# EAGLE library part M27C4001 (library st-microelectronics)
4 Mbit (512Kb x 8) UV EPROM and OTP EPROM Source: www.st.com .. M27C4001 EPROM 4 MBIT.pdf
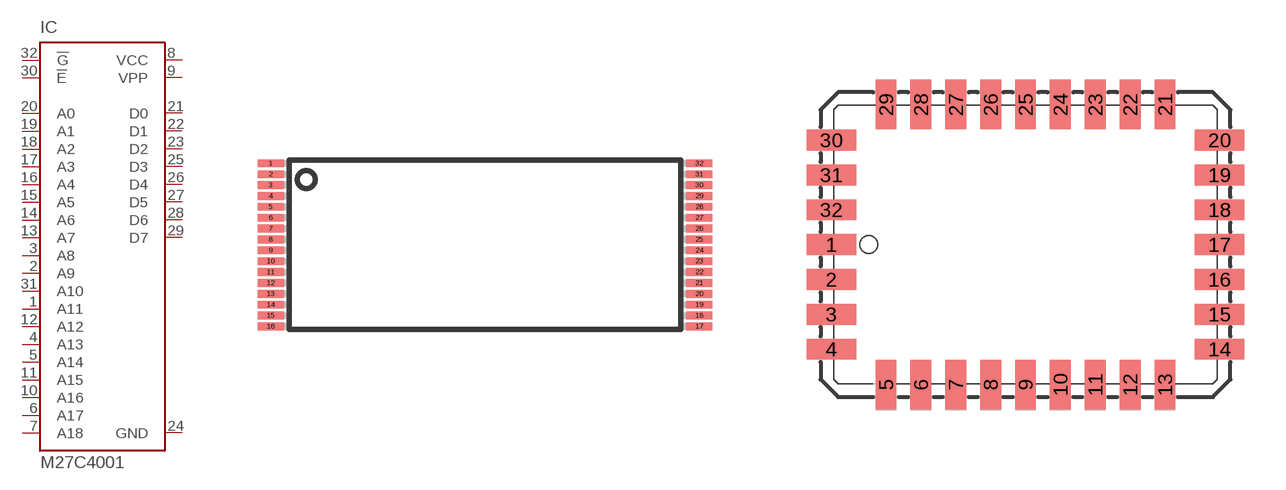
[diagram p29: symbol with the pads of TSOP32; footprints TSOP32, LCC32]

Designator prefix IC

## M27C4001N (OC_FARNELL: unknown; OC_NEWARK: unknown)  [TSOP32]
1  A11  in
2  A9  in
3  A8  in
4  A13  in
5  A14  in
6  A17  in
7  A18  in
8  VCC  pwr
9  VPP  pwr
10  A16  in
11  A15  in
12  A12  in
13  A7  in
14  A6  in
15  A5  in
16  A4  in
17  A3  in
18  A2  in
19  A1  in
20  A0  in
21  D0  hiz
22  D1  hiz
23  D2  hiz
24  GND  pwr
25  D3  hiz
26  D4  hiz
27  D5  hiz
28  D6  hiz
29  D7  hiz
30  !E  in
31  A10  in
32  !G  in

## M27C4001C (MPN: M27C4001-10C1; OC_FARNELL: 1094260; OC_NEWARK: 24M5086)  [LCC32]
1  VPP  pwr
2  A16  in
3  A15  in
4  A12  in
5  A7  in
6  A6  in
7  A5  in
8  A4  in
9  A3  in
10  A2  in
11  A1  in
12  A0  in
13  D0  hiz
14  D1  hiz
15  D2  hiz
16  GND  pwr
17  D3  hiz
18  D4  hiz
19  D5  hiz
20  D6  hiz
21  D7  hiz
22  !E  in
23  A10  in
24  !G  in
25  A11  in
26  A9  in
27  A8  in
28  A13  in
29  A14  in
30  A17  in
31  A18  in
32  VCC  pwr

## M27C4001B (MPN: M27C4001-10B1; OC_FARNELL: 3338137; OC_NEWARK: 56P9200)  [DIL32]
Pads as for LCC32

## M27C4001F (MPN: M27C4001-15F1; OC_FARNELL: 1132004; OC_NEWARK: 24M5087)  [FDIP32]
Pads as for LCC32

## Footprint TSOP32 (pad centres in mm)
Thin Small Outline Package
smd 1.2 x 0.36: 1 -9.85,3.75; 2 -9.85,3.25; 3 -9.85,2.75; 4 -9.85,2.25; 5 -9.85,1.75; 6 -9.85,1.25; 7 -9.85,0.75; 8 -9.85,0.25; 9 -9.85,-0.25; 10 -9.85,-0.75; 11 -9.85,-1.25; 12 -9.85,-1.75; 13 -9.85,-2.25; 14 -9.85,-2.75; 15 -9.85,-3.25; 16 -9.85,-3.75; 17 9.85,-3.75; 18 9.85,-3.25; 19 9.85,-2.75; 20 9.85,-2.25; 21 9.85,-1.75; 22 9.85,-1.25; 23 9.85,-0.75; 24 9.85,-0.25; 25 9.85,0.25; 26 9.85,0.75; 27 9.85,1.25; 28 9.85,1.75; 29 9.85,2.25; 30 9.85,2.75; 31 9.85,3.25; 32 9.85,3.75

## Footprint LCC32 (pad centres in mm)
LEADED CHIP CARRIER rectangle
smd 1.8 x 0.76: 1 -7.07,0.635; 2 -7.07,-0.635; 3 -7.07,-1.905; 4 -7.07,-3.175; 14 7.07,-3.175; 15 7.07,-1.905; 16 7.07,-0.635; 17 7.07,0.635; 18 7.07,1.905; 19 7.07,3.175; 20 7.07,4.445; 30 -7.07,4.445; 31 -7.07,3.175; 32 -7.07,1.905
smd 0.76 x 1.8: 5 -5.08,-4.47; 6 -3.81,-4.47; 7 -2.54,-4.47; 8 -1.27,-4.47; 9 0,-4.47; 10 1.27,-4.47; 11 2.54,-4.47; 12 3.81,-4.47; 13 5.08,-4.47; 21 5.08,5.74; 22 3.81,5.74; 23 2.54,5.74; 24 1.27,5.74; 25 0,5.74; 26 -1.27,5.74; 27 -2.54,5.74; 28 -3.81,5.74; 29 -5.08,5.74

## Footprint DIL32 (pad centres in mm)
Dual In Line Package
drill 0.813 long: 1 -19.05,-7.62; 2 -16.51,-7.62; 3 -13.97,-7.62; 4 -11.43,-7.62; 5 -8.89,-7.62; 6 -6.35,-7.62; 7 -3.81,-7.62; 8 -1.27,-7.62; 9 1.27,-7.62; 10 3.81,-7.62; 11 6.35,-7.62; 12 8.89,-7.62; 13 11.43,-7.62; 14 13.97,-7.62; 15 16.51,-7.62; 16 19.05,-7.62; 17 19.05,7.62; 18 16.51,7.62; 19 13.97,7.62; 20 11.43,7.62; 21 8.89,7.62; 22 6.35,7.62; 23 3.81,7.62; 24 1.27,7.62; 25 -1.27,7.62; 26 -3.81,7.62; 27 -6.35,7.62; 28 -8.89,7.62; 29 -11.43,7.62; 30 -13.97,7.62; 31 -16.51,7.62; 32 -19.05,7.62

## Footprint FDIP32 (pad centres in mm)
FDIP32W (F) Source: www.st.com
drill 0.813: 1 -19.05,-7.62; 2 -16.51,-7.62; 3 -13.97,-7.62; 4 -11.43,-7.62; 5 -8.89,-7.62; 6 -6.35,-7.62; 7 -3.81,-7.62; 8 -1.27,-7.62; 9 1.27,-7.62; 10 3.81,-7.62; 11 6.35,-7.62; 12 8.89,-7.62; 13 11.43,-7.62; 14 13.97,-7.62; 15 16.51,-7.62; 16 19.05,-7.62; 17 19.05,7.62; 18 16.51,7.62; 19 13.97,7.62; 20 11.43,7.62; 21 8.89,7.62; 22 6.35,7.62; 23 3.81,7.62; 24 1.27,7.62; 25 -1.27,7.62; 26 -3.81,7.62; 27 -6.35,7.62; 28 -8.89,7.62; 29 -11.43,7.62; 30 -13.97,7.62; 31 -16.51,7.62; 32 -19.05,7.62